# EAGLE library part ICM7208 (library intersil)
7 Dig LED Display Counter
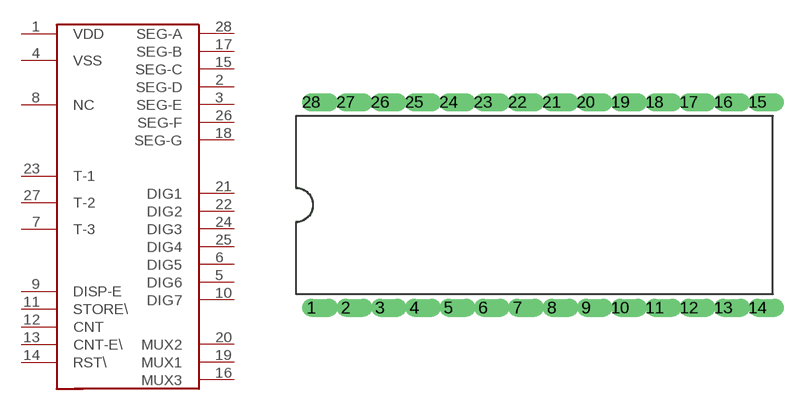
[diagram p0: symbol with the pads of DIL28-6; footprint DIL28-6]

Designator prefix -

## ICM7208"  [DIL28-6]
1  VDD  pwr
2  SEG-D  out
3  SEG-E  out
4  VSS  sup
5  DIG6  out
6  DIG5  out
7  T-3  in
8  NC  nc
9  DISP-E  in
10  DIG7  out
11  STORE\  in
12  CNT  in
13  CNT-E\  in
14  RST\  in
15  SEG-C  out
16  MUX3  pas
17  SEG-B  out
18  SEG-G  out
19  MUX1  pas
20  MUX2  pas
21  DIG1  out
22  DIG2  out
23  T-1  in
24  DIG3  out
25  DIG4  out
26  SEG-F  out
27  T-2  in
28  SEG-A  out

## Footprint DIL28-6 (pad centres in mm)
Dual in Line Package
drill 0.813 offset: 1 -16.51,-7.62; 2 -13.97,-7.62; 3 -11.43,-7.62; 4 -8.89,-7.62; 5 -6.35,-7.62; 6 -3.81,-7.62; 7 -1.27,-7.62; 8 1.27,-7.62; 9 3.81,-7.62; 10 6.35,-7.62; 11 8.89,-7.62; 12 11.43,-7.62; 13 13.97,-7.62; 14 16.51,-7.62; 15 16.51,7.62; 16 13.97,7.62; 17 11.43,7.62; 18 8.89,7.62; 19 6.35,7.62; 20 3.81,7.62; 21 1.27,7.62; 22 -1.27,7.62; 23 -3.81,7.62; 24 -6.35,7.62; 25 -8.89,7.62; 26 -11.43,7.62; 27 -13.97,7.62; 28 -16.51,7.62